# Altium schematic symbol library GRM32EC72A106KE05K.SchLib: 1 symbol
Pins are listed as number, name and electrical type; pins without a type are passive.

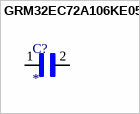
[diagram p0: symbol GRM32EC72A106KE05K]

## GRM32EC72A106KE05K
designator C?
CAP CER MLCC; MP: GRM32EC72A106KE05K; MF: {'manufacturer': u'Murata Electronics'}; Price: None; Availability: Unavailable; Value: *; Package: None
footprint CAPC3225X270N
pins: 1, 2